# EAGLE library part DS3231 (library untitled)
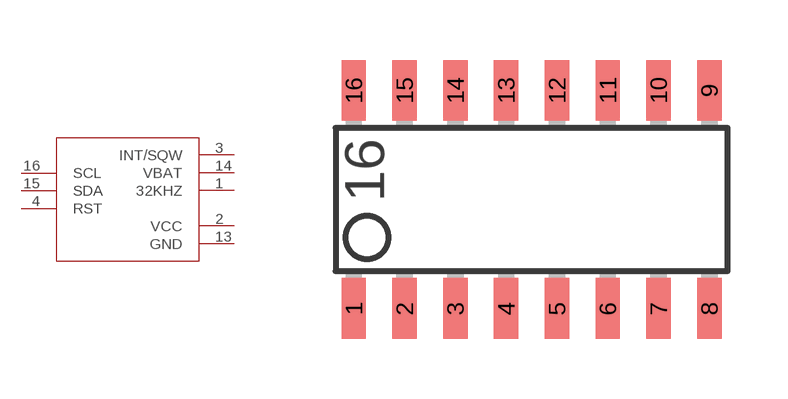
[diagram p1: symbol with the pads of SO-16; footprint SO-16]

Designator prefix -

## DS3231  [SO-16]
1  32KHZ
2  VCC
3  INT/SQW
4  RST
13  GND
14  VBAT
15  SDA
16  SCL

## Footprint SO-16 (pad centres in mm)
Small Outline Integrated Circuit
smd 0.61 x 1.524: 1 -4.445,-2.794; 2 -3.175,-2.794; 3 -1.905,-2.794; 4 -0.635,-2.794; 5 0.635,-2.794; 6 1.905,-2.794; 7 3.175,-2.794; 8 4.445,-2.794; 9 4.445,2.667; 10 3.175,2.667; 11 1.905,2.667; 12 0.635,2.667; 13 -0.635,2.667; 14 -1.905,2.667; 15 -3.175,2.667; 16 -4.445,2.667